# EAGLE library part LED_SEGMENT (library OctoWatch)
7 segment led LCD 7mm
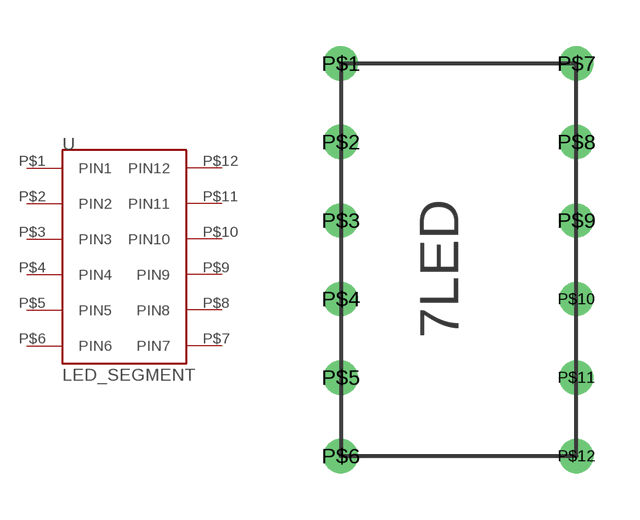
[diagram p0: symbol with the pads of LED_SEGMENT; footprint LED_SEGMENT]

Designator prefix -

## LED_SEGMENT  [LED_SEGMENT]
P$1  PIN1
P$2  PIN2
P$3  PIN3
P$4  PIN4
P$5  PIN5
P$6  PIN6
P$7  PIN7
P$8  PIN8
P$9  PIN9
P$10  PIN10
P$11  PIN11
P$12  PIN12

## Footprint LED_SEGMENT (pad centres in mm)
drill 0.6: P$1 -12.7,7.62; P$2 -12.7,5.08; P$3 -12.7,2.54; P$4 -12.7,0; P$5 -12.7,-2.54; P$6 -12.7,-5.08; P$7 -5.08,7.62; P$8 -5.08,5.08; P$9 -5.08,2.54; P$10 -5.08,0; P$11 -5.08,-2.54; P$12 -5.08,-5.08